# Altium footprint library 796636-9.PcbLib: 1 footprints
Each footprint in its own frame and in the unit in brackets; x right, y up, seen from the top. Pads: shape width x height; smd on the part's side, far side on the other; paste and mask are expansions set on the pad; w line width, h text height; cw(c..) or ccw(c..) is an arc to the next point about the centre after c.
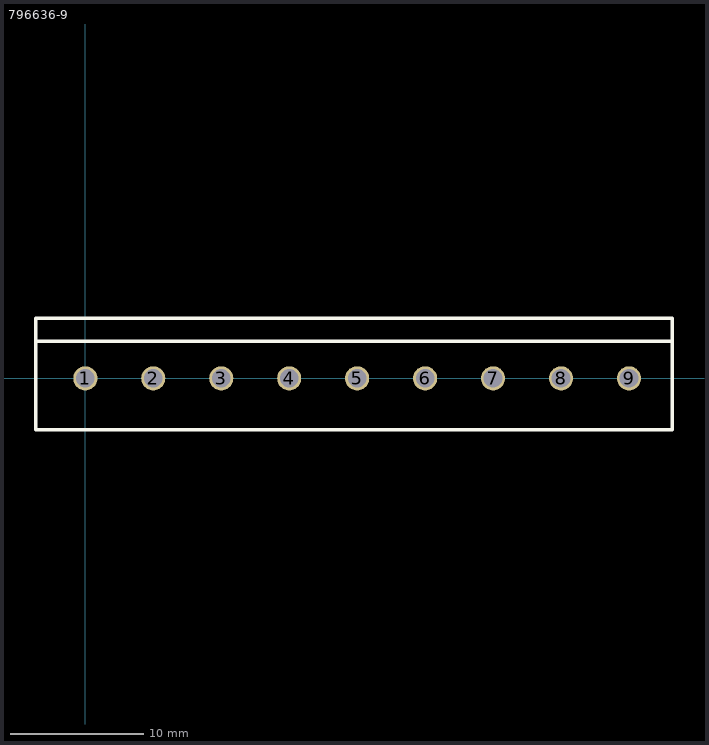
[diagram p0: the footprint, top view; thin cyan lines are the x and y axes]

## 796636-9 [mm] "9pos Eurostyle (Phoenix) terminal block header"
pads (9):
  round 1.8 hole 1.4: 1(0,0) 2(5.08,0) 3(10.16,0) 4(15.24,0) 5(20.32,0) 6(25.4,0) 7(30.48,0) 8(35.56,0) 9(40.64,0)
Top Overlay:
  lines w0.254: -3.7,2.769 43.84,2.769 ; -3.7,-3.85 -3.7,4.5 43.866,4.5 43.866,-3.85 -3.7,-3.85
3D body: height 12, standoff -3.5, extent -3.678,-3.851 43.862,4.499